# EAGLE library part MC14028BDG (library On Semiconductor)
BCD-To-Decimal Decoder Binary-To-Octal Decoder
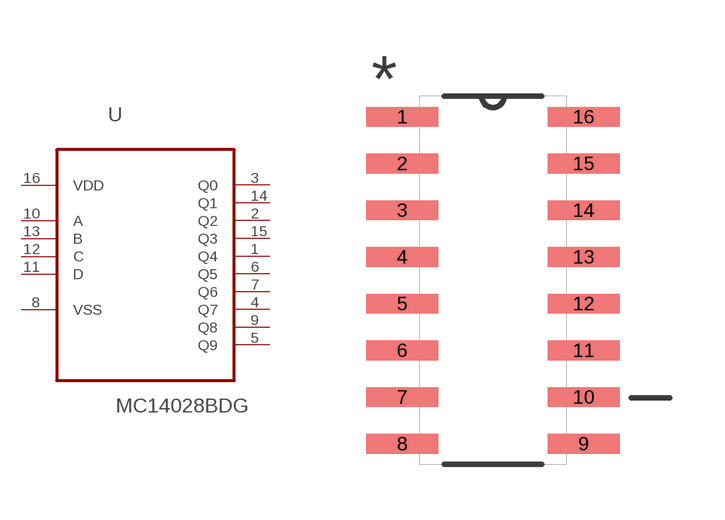
[diagram p221: symbol with the pads of SOIC127P600X175-16N; footprint SOIC127P600X175-16N]

Designator prefix U

## MC14028BDG (MPN: MC14028BDG; OC_FARNELL: 9666362; OC_NEWARK: 71J5465; PACKAGE: SOIC-16; SUPPLIER: ON SEMICONDUCTOR)  [SOIC127P600X175-16N]
1  Q4  out
2  Q2  out
3  Q0  out
4  Q7  out
5  Q9  out
6  Q5  out
7  Q6  out
8  VSS  pas
9  Q8  out
10  A  in
11  D  in
12  C  in
13  B  in
14  Q1  out
15  Q3  out
16  VDD  pwr

## Footprint SOIC127P600X175-16N (pad centres in mm)
smd 1.956 x 0.533: 1 -2.464,4.445; 2 -2.464,3.175; 3 -2.464,1.905; 4 -2.464,0.635; 5 -2.464,-0.635; 6 -2.464,-1.905; 7 -2.464,-3.175; 8 -2.464,-4.445; 9 2.464,-4.445; 10 2.464,-3.175; 11 2.464,-1.905; 12 2.464,-0.635; 13 2.464,0.635; 14 2.464,1.905; 15 2.464,3.175; 16 2.464,4.445